# Altium footprint library my_library.PcbLib: 18 footprints (part 2 of 2)
Each footprint in its own frame and in the unit in brackets; x right, y up, seen from the top. Pads: shape width x height; smd on the part's side, far side on the other; paste and mask are expansions set on the pad; w line width, h text height; cw(c..) or ccw(c..) is an arc to the next point about the centre after c.
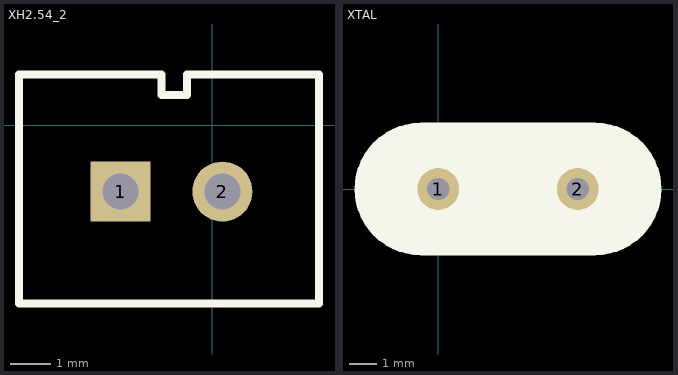
[diagram p1: the footprints below, top view; thin cyan lines are the x and y axes]

## XH2.54_2 [mm]
pads (2):
  rect 1.5x1.5 hole 0.9: 1(-2.286,-1.651)
  round 1.5 hole 0.9: 2(0.254,-1.651)
Top Overlay:
  lines w0.2: -4.826,-4.445 2.667,-4.445 2.667,1.27 -0.635,1.27 -0.635,0.762 -1.27,0.762 -1.27,1.27 -4.826,1.27 -4.826,-4.445

## XTAL [mil]
pads (2):
  round 60 hole 32: 1(0,0) 2(200,0)
Top Overlay:
  lines w10: -25,-90 cw(c-25,0) -25,90 225,90 cw(c225,0) 225,-90 -25,-90
  lines w177.17: -25,0 225,0